# EAGLE library part LTC6908 (library linear-tech-3)
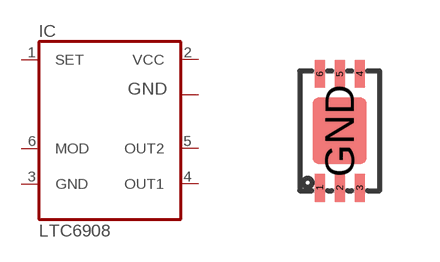
[diagram p54: symbol with the pads of DFN6; footprint DFN6]

Designator prefix IC

## LTC6908DCB  [DFN6]
1  SET
2  VCC  pwr
3  GND  pwr
4  OUT1  out
5  OUT2  out
6  MOD
GND  GND  pwr

## Footprint DFN6 (pad centres in mm)
smd 0.25 x 0.7: 1 -0.5,-1.425; 2 0,-1.425; 3 0.5,-1.425; 4 0.5,1.425; 5 0,1.425; 6 -0.5,1.425
smd 1.35 x 1.65: GND 0,0